# Altium schematic symbol library ESP32.SchLib: 4 symbols
Pins are listed as number, name and electrical type; pins without a type are passive.

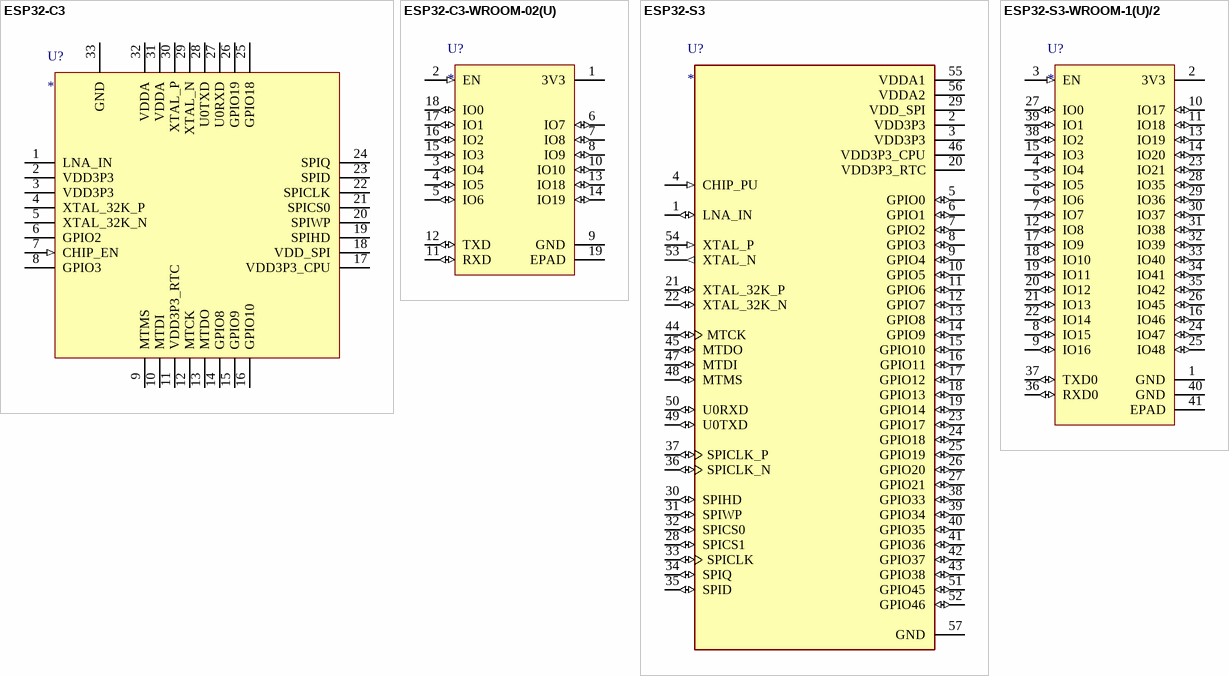
[diagram p0: symbols ESP32-C3 to ESP32-S3-WROOM-1(U)/2]

## ESP32-C3
designator U?
WiFi 802.11b/g/n, Bluetooth v5.0 Transceiver Module 2.402GHz ~ 2.48GHz, Antenna Not Included, Surface Mount
footprint ESP32-C3-QFN32 (SLP-5X5)
pins: 1 LNA_IN, 2 VDD3P3, 3 VDD3P3, 4 XTAL_32K_P, 5 XTAL_32K_N, 6 GPIO2, 7 CHIP_EN (in), 8 GPIO3, 9 MTMS, 10 MTDI, 11 VDD3P3_RTC, 12 MTCK, 13 MTDO, 14 GPIO8, 15 GPIO9, 16 GPIO10, 17 VDD3P3_CPU, 18 VDD_SPI, 19 SPIHD, 20 SPIWP, 21 SPICS0, 22 SPICLK, 23 SPID, 24 SPIQ, 25 GPIO18, 26 GPIO19, 27 U0RXD, 28 U0TXD, 29 XTAL_N, 30 XTAL_P, 31 VDDA, 32 VDDA, 33 GND

## ESP32-C3-WROOM-02(U)
designator U?
2.4GHz WiFi 802.11b/g/n + Bluetooth v5.0 Transceiver Module, PCB Trace, Surface Mount
footprint ESP32-C3-WROOM-02
footprint ESP32-C3-WROOM-02U
pins: 1 3V3 (power), 2 EN (in), 3 IO4 (io), 4 IO5 (io), 5 IO6 (io), 6 IO7 (io), 7 IO8 (io), 8 IO9 (io), 9 GND (power), 10 IO10 (io), 11 RXD (io), 12 TXD (io), 13 IO18 (io), 14 IO19 (io), 15 IO3 (io), 16 IO2 (io), 17 IO1 (io), 18 IO0 (io), 19 EPAD (power)

## ESP32-S3
designator U?
WiFi 802.11b/g/n, Bluetooth v5.0 Transceiver Module 2.402GHz ~ 2.48GHz, Antenna Not Included, Surface Mount; MF: {'manufacturer': u'Espressif Systems'}; MP: ESP32-S3R8; Package: None; Price: None; Availability: Unavailable; Value: *
footprint ESP32-S3-QFN56 (SLP-7X7)
pins: 1 LNA_IN (io), 2 VDD3P3 (power), 3 VDD3P3 (power), 4 CHIP_PU (in), 5 GPIO0 (io), 6 GPIO1 (io), 7 GPIO2 (io), 8 GPIO3 (io), 9 GPIO4 (io), 10 GPIO5 (io), 11 GPIO6 (io), 12 GPIO7 (io), 13 GPIO8 (io), 14 GPIO9 (io), 15 GPIO10 (io), 16 GPIO11 (io), 17 GPIO12 (io), 18 GPIO13 (io), 19 GPIO14 (io), 20 VDD3P3_RTC (power), 21 XTAL_32K_P (io), 22 XTAL_32K_N (io), 23 GPIO17 (io), 24 GPIO18 (io), 25 GPIO19 (io), 26 GPIO20 (io), 27 GPIO21 (io), 28 SPICS1 (io), 29 VDD_SPI (power), 30 SPIHD (io), 31 SPIWP (io), 32 SPICS0 (io), 33 SPICLK (io), 34 SPIQ (io), 35 SPID (io), 36 SPICLK_N (io), 37 SPICLK_P (io), 38 GPIO33 (io), 39 GPIO34 (io), 40 GPIO35 (io), 41 GPIO36 (io), 42 GPIO37 (io), 43 GPIO38 (io), 44 MTCK (io), 45 MTDO (io), 46 VDD3P3_CPU (power), 47 MTDI (io), 48 MTMS (io), 49 U0TXD (io), 50 U0RXD (io), 51 GPIO45 (io), 52 GPIO46 (io), 53 XTAL_N (out), 54 XTAL_P (in), 55 VDDA1 (power), 56 VDDA2 (power), 57 GND (power)

## ESP32-S3-WROOM-1(U)/2
designator U?
2.4GHz WiFi 802.11b/g/n + Bluetooth v5.0 Transceiver Module, PCB Trace, Surface Mount (32MB Flash + 8MB PSRAM); MP: ESP32-S3-WROOM-2-N32R8V; MF: {'manufacturer': u'Espressif Systems'}; Package: None; Value: *; Price: None; Availability: Unavailable; Supplier 1: Digi-Key
footprint ESP32-S3-WROOM-1/2
footprint ESP32-S3-WROOM-1U
pins: 1 GND (power), 2 3V3 (power), 3 EN (in), 4 IO4 (io), 5 IO5 (io), 6 IO6 (io), 7 IO7 (io), 8 IO15 (io), 9 IO16 (io), 10 IO17 (io), 11 IO18 (io), 12 IO8 (io), 13 IO19 (io), 14 IO20 (io), 15 IO3 (io), 16 IO46 (io), 17 IO9 (io), 18 IO10 (io), 19 IO11 (io), 20 IO12 (io), 21 IO13 (io), 22 IO14 (io), 23 IO21 (io), 24 IO47 (io), 25 IO48 (io), 26 IO45 (io), 27 IO0 (io), 28 IO35 (io), 29 IO36 (io), 30 IO37 (io), 31 IO38 (io), 32 IO39 (io), 33 IO40 (io), 34 IO41 (io), 35 IO42 (io), 36 RXD0 (io), 37 TXD0 (io), 38 IO2 (io), 39 IO1 (io), 40 GND (power), 41 EPAD (power)